# Altium footprint library MD_LPCXpresso.PcbLib: 1 footprints
Each footprint in its own frame and in the unit in brackets; x right, y up, seen from the top. Pads: shape width x height; smd on the part's side, far side on the other; paste and mask are expansions set on the pad; w line width, h text height; cw(c..) or ccw(c..) is an arc to the next point about the centre after c.
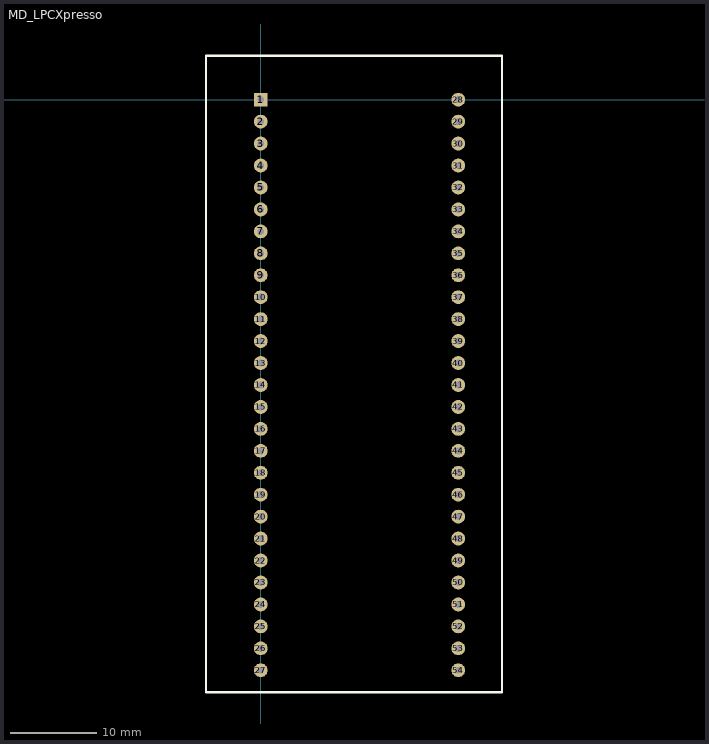
[diagram p0: the footprint, top view; thin cyan lines are the x and y axes]

## MD_LPCXpresso [mm] "LPCXpresso board"
pads (54):
  rect 1.6x1.6 hole 0.8: 1(0,0)
  round 1.6 hole 0.8: 2(0,-2.54) 3(0,-5.08) 4(0,-7.62) 5(0,-10.16) 6(0,-12.7) 7(0,-15.24) 8(0,-17.78) 9(0,-20.32) 10(0,-22.86) 11(0,-25.4) 12(0,-27.94) 13(0,-30.48) 14(0,-33.02) 15(0,-35.56) 16(0,-38.1) 17(0,-40.64) 18(0,-43.18) 19(0,-45.72) 20(0,-48.26) 21(0,-50.8) 22(0,-53.34) 23(0,-55.88) 24(0,-58.42) 25(0,-60.96) 26(0,-63.5) 27(0,-66.04) 28(22.86,0) 29(22.86,-2.54) 30(22.86,-5.08) 31(22.86,-7.62) 32(22.86,-10.16) 33(22.86,-12.7) 34(22.86,-15.24) 35(22.86,-17.78) 36(22.86,-20.32) 37(22.86,-22.86) 38(22.86,-25.4) 39(22.86,-27.94) 40(22.86,-30.48) 41(22.86,-33.02) 42(22.86,-35.56) 43(22.86,-38.1) 44(22.86,-40.64) 45(22.86,-43.18) 46(22.86,-45.72) 47(22.86,-48.26) 48(22.86,-50.8) 49(22.86,-53.34) 50(22.86,-55.88) 51(22.86,-58.42) 52(22.86,-60.96) 53(22.86,-63.5) 54(22.86,-66.04)
Top Overlay:
  lines w0.254: -6.35,-68.58 27.94,-68.58 27.94,5.08 -6.35,5.08 -6.35,-68.58
3D body: height 9.1, standoff 7.5, extent -6.35,-68.58 27.94,5.08
3D body: height 4.53, standoff -2.89, extent -1.27,-67.31 1.27,1.27
3D body: height 4.53, standoff -2.89, extent 21.59,-67.31 24.13,1.27
3D body: height 11.21, standoff 1.2, extent -1.27,-67.31 1.27,1.27
3D body: height 11.21, standoff 1.2, extent 21.59,-67.31 24.13,1.27